# Altium schematic symbol library OnSemi.SchLib: 1 symbol
Pins are listed as number, name and electrical type; pins without a type are passive.

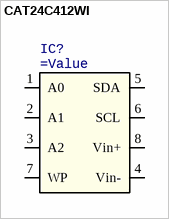
[diagram p0: symbol CAT24C412WI]

## CAT24C412WI
designator IC?
512k EEPROM; Manufacturer 1: Atmel; Value: CAT24C512; Manufacturer Part Number 1: CAT24C512
footprint DIP8 (DIP package, 8 Pins, Pitch 2.54mm)
footprint SOIC127P590X175-8N (SOIC, 8-Leads, Body 4.90x3.90mm, Pitch 1.27mm, IPC Medium Density)
pins: 1 A0, 2 A1, 3 A2, 4 Vin- (power), 5 SDA, 6 SCL, 7 WP, 8 Vin+ (power)